# Altium schematic symbol library HOLE_PTH.Schlib: 1 symbol
Pins are listed as number, name and electrical type; pins without a type are passive.

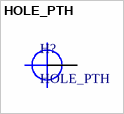
[diagram p0: symbol HOLE_PTH]

## HOLE_PTH
designator H?  (no BOM)
pins: 0